# EAGLE library part ATF22V10C-10PU (library pixel)
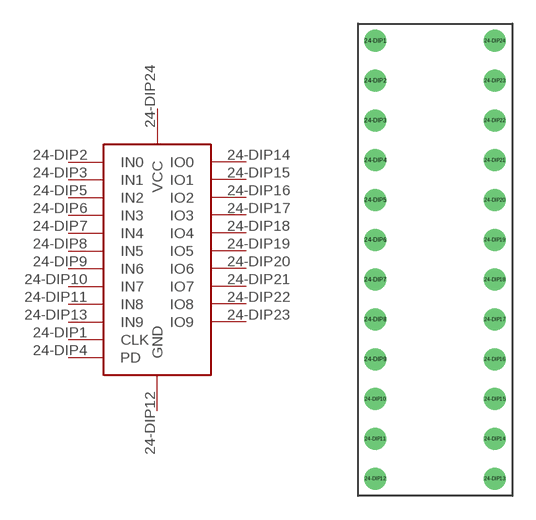
[diagram p32: symbol with the pads of 24-DIP; footprint 24-DIP]

Designator prefix -

## ATF22V10C-10PU  [24-DIP]
24-DIP1  CLK
24-DIP2  IN0
24-DIP3  IN1
24-DIP4  PD
24-DIP5  IN2
24-DIP6  IN3
24-DIP7  IN4
24-DIP8  IN5
24-DIP9  IN6
24-DIP10  IN7
24-DIP11  IN8
24-DIP12  GND
24-DIP13  IN9
24-DIP14  IO0
24-DIP15  IO1
24-DIP16  IO2
24-DIP17  IO3
24-DIP18  IO4
24-DIP19  IO5
24-DIP20  IO6
24-DIP21  IO7
24-DIP22  IO8
24-DIP23  IO9
24-DIP24  VCC

## Footprint 24-DIP (pad centres in mm)
drill 0.9: 24-DIP1 -3.81,13.97; 24-DIP2 -3.81,11.43; 24-DIP3 -3.81,8.89; 24-DIP4 -3.81,6.35; 24-DIP5 -3.81,3.81; 24-DIP6 -3.81,1.27; 24-DIP7 -3.81,-1.27; 24-DIP8 -3.81,-3.81; 24-DIP9 -3.81,-6.35; 24-DIP10 -3.81,-8.89; 24-DIP11 -3.81,-11.43; 24-DIP12 -3.81,-13.97; 24-DIP13 3.81,-13.97; 24-DIP14 3.81,-11.43; 24-DIP15 3.81,-8.89; 24-DIP16 3.81,-6.35; 24-DIP17 3.81,-3.81; 24-DIP18 3.81,-1.27; 24-DIP19 3.81,1.27; 24-DIP20 3.81,3.81; 24-DIP21 3.81,6.35; 24-DIP22 3.81,8.89; 24-DIP23 3.81,11.43; 24-DIP24 3.81,13.97